# Altium schematic symbol library 470uF Electrolytic Cap.SchLib: 1 symbol
Pins are listed as number, name and electrical type; pins without a type are passive.

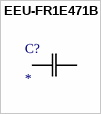
[diagram p0: symbol EEU-FR1E471B]

## EEU-FR1E471B
designator C?
Imported; Manufacturer_Part_Number: EEU-FR1E471B; Vendor: Panasonic; Built_By: EMA_UL_Team; Type: DEV; C: Copyright (C) 2015 Accelerated Designs. All rights reserved; RefDes: RefDes; Value: Value
footprint CAP_PAN_10X12.5
pins: 1, 2